# Altium schematic symbol library TMV0505S.Schlib: 1 symbol
Pins are listed as number, name and electrical type; pins without a type are passive.

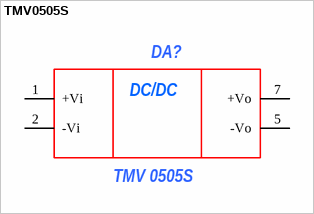
[diagram p0: symbol TMV0505S]

## TMV0505S
designator DA?, comment TMV 0505S
DC/DC преобразователь Uвх=5В, Uвых=5В 1Вт; ComponentLink1Description: *; ComponentLink1URL: *; ComponentLink2Description: *; ComponentLink2URL: *; ManufacturerPartNumber: TMV 0505S; Power/Voltage: *; Rem: *; TKE: *; Tolerance: *; TU/GOST: *; Value: *; Корпус: *; Примечание: *; Manufacturer: *; Author: *; Type: *
footprint TMV0505S
pins: 1 +Vi (power), 2 -Vi (power), 5 -Vo (power), 7 +Vo (power)
text: DC/DC